# EAGLE library part QUICKIDE (library m-pad)
Quick Logic's QuickIDE Intel XScale PXA2xx to IDE Bridge Description: The QuickIDE device is a full featured IDE Controller companion device for the Intel XScale PXA2xxx line of embedded processors. This device offers extremely high throughput while consuming very little power. With its on-board Sector Buffer RAM, the device allows the XScale CPU to perform read and write operations in full 512- byte sectors without interruption or waiting for the externally connected IDE device to be 'ready'. This device connects to the XScale CPU via its static memory interface. Variable Latency Input and Output (VLIO) is handled automatically by the QuickIDE device through use of the RDY signal. The RDY signal is only used to properly synchronize the QuickIDE device's responses to the XScale read and write commands during high-speed bus operation the QuickIDE device does not assert the RDY signal while it is waiting for responses from the externally connected IDE device. Instead, after an IDE command is given to the QuickIDE device, an interrupt is asserted to the XScale CPU to indicate that the externally connected device has responded and that the internal sector buffer is ready for read or write. Although the IDE interface is 16-bits wide, the QuickIDE device 'stacks' the IDE data words properly in the internal sector buffers so that the XScale device can perform all read and write operations in 32-bit mode. The QuickIDE device is based upon QuickLogic's proven programmable logic ViaLink® technology and is implemented in the QL8050 device in a 196-pin plastic (0.8 mm ball pitch) BGA package. Features: IDE Controller - PIO Mode 0 to PIO Mode 4 Support with MultiWord DMA - Internal IDE Sector Buffering for Increased Performance (Back-to-Back ?Prefetch? Sector Transfers) - Controller Performance Close to Maximum PIO Mode Performance - In Prefetch MWDMA Mode, 32-bit XScale Transfers Using Flow-Through DMA - PIO4 Mode Supports 15.25 MBytes/sec (Excluding OS Overhead) - Greter than 10MBytes/sec Transfers Measured Under WinCE 5.0 - Internal ATA Timing Registers for PIO Modes - Compact Flash/PCMCIA Card Compatible in TRUE-IDE/ATA Mode Glueless Connection to Intel XScale Static Memory Interface - Uses One Chip Select and Eleven Address Lines - RDY Signal Implemented for Variable Latency Support (VLIO) - 32-bit XScale Transfers Supported - Compatible with XScale Flow-Through DMA Transfers Selectable Low Power Mode - Controlled by Discrete Input Pin - Reduces Overall Power Consumption to Less than 1mW Can Power Up/Down to Connected IDE Device Via External Switch Please send any comments to: messi@users.sourceforge.net
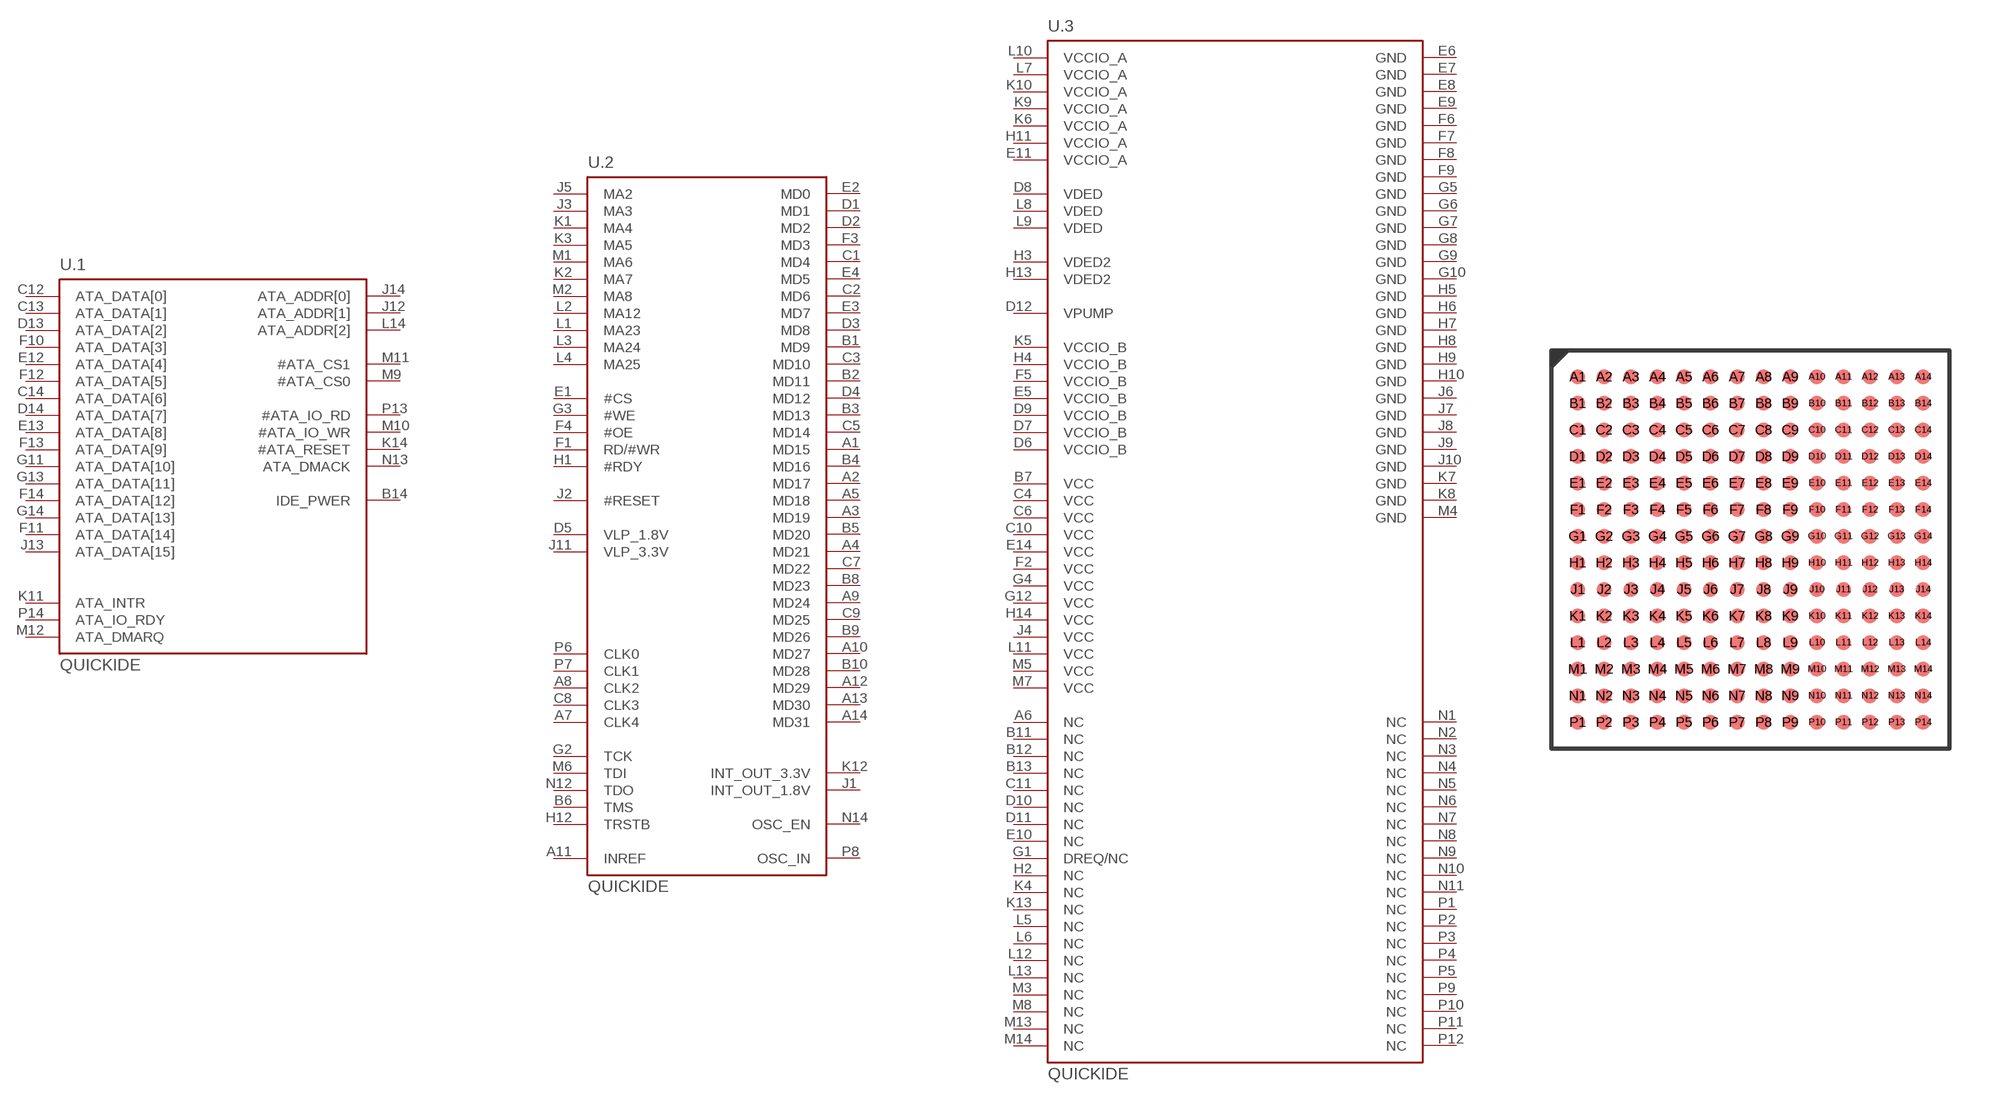
[diagram p88: symbol with the pads of BGA196; footprint BGA196]

Designator prefix U; gates .3=QUICKIDE_PWR .1=QUICKIDE_ATA .2=QUICKIDE_VLIO

## QUICKIDE-V3  [BGA196]
A1  .2:MD15
A2  .2:MD17
A3  .2:MD19
A4  .2:MD21
A5  .2:MD18
A6  .3:NC  nc
A7  .2:CLK4  in
A8  .2:CLK2  in
A9  .2:MD24
A10  .2:MD27
A11  .2:INREF  in
A12  .2:MD29
A13  .2:MD30
A14  .2:MD31
B1  .2:MD9
B2  .2:MD11
B3  .2:MD13
B4  .2:MD16
B5  .2:MD20
B6  .2:TMS  in
B7  .3:VCC  pwr
B8  .2:MD23
B9  .2:MD26
B10  .2:MD28
B11  .3:NC  nc
B12  .3:NC  nc
B13  .3:NC  nc
B14  .1:IDE_PWER  out
C1  .2:MD4
C2  .2:MD6
C3  .2:MD10
C4  .3:VCC  pwr
C5  .2:MD14
C6  .3:VCC  pwr
C7  .2:MD22
C8  .2:CLK3  in
C9  .2:MD25
C10  .3:VCC  pwr
C11  .3:NC  nc
C12  .1:ATA_DATA[0]
C13  .1:ATA_DATA[1]
C14  .1:ATA_DATA[6]
D1  .2:MD1
D2  .2:MD2
D3  .2:MD8
D4  .2:MD12
D5  .2:VLP_1.8V  in
D6  .3:VCCIO_B  pwr
D7  .3:VCCIO_B  pwr
D8  .3:VDED  pwr
D9  .3:VCCIO_B  pwr
D10  .3:NC  nc
D11  .3:NC  nc
D12  .3:VPUMP  pwr
D13  .1:ATA_DATA[2]
D14  .1:ATA_DATA[7]
E1  .2:#CS  in
E2  .2:MD0
E3  .2:MD7
E4  .2:MD5
E5  .3:VCCIO_B  pwr
E6  .3:GND  pwr
E7  .3:GND  pwr
E8  .3:GND  pwr
E9  .3:GND  pwr
E10  .3:NC  nc
E11  .3:VCCIO_A  pwr
E12  .1:ATA_DATA[4]
E13  .1:ATA_DATA[8]
E14  .3:VCC  pwr
F1  .2:RD/#WR  in
F2  .3:VCC  pwr
F3  .2:MD3
F4  .2:#OE  in
F5  .3:VCCIO_B  pwr
F6  .3:GND  pwr
F7  .3:GND  pwr
F8  .3:GND  pwr
F9  .3:GND  pwr
F10  .1:ATA_DATA[3]
F11  .1:ATA_DATA[14]
F12  .1:ATA_DATA[5]
F13  .1:ATA_DATA[9]
F14  .1:ATA_DATA[12]
G1  .3:DREQ/NC  out
G2  .2:TCK  in
G3  .2:#WE  in
G4  .3:VCC  pwr
G5  .3:GND  pwr
G6  .3:GND  pwr
G7  .3:GND  pwr
G8  .3:GND  pwr
G9  .3:GND  pwr
G10  .3:GND  pwr
G11  .1:ATA_DATA[10]
G12  .3:VCC  pwr
G13  .1:ATA_DATA[11]
G14  .1:ATA_DATA[13]
H1  .2:#RDY  out
H2  .3:NC  nc
H3  .3:VDED2  pwr
H4  .3:VCCIO_B  pwr
H5  .3:GND  pwr
H6  .3:GND  pwr
H7  .3:GND  pwr
H8  .3:GND  pwr
H9  .3:GND  pwr
H10  .3:GND  pwr
H11  .3:VCCIO_A  pwr
H12  .2:TRSTB  in
H13  .3:VDED2  pwr
H14  .3:VCC  pwr
J1  .2:INT_OUT_1.8V  out
J2  .2:#RESET  in
J3  .2:MA3  in
J4  .3:VCC  pwr
J5  .2:MA2  in
J6  .3:GND  pwr
J7  .3:GND  pwr
J8  .3:GND  pwr
J9  .3:GND  pwr
J10  .3:GND  pwr
J11  .2:VLP_3.3V
J12  .1:ATA_ADDR[1]  out
J13  .1:ATA_DATA[15]
J14  .1:ATA_ADDR[0]  out
K1  .2:MA4  in
K2  .2:MA7  in
K3  .2:MA5  in
K4  .3:NC  nc
K5  .3:VCCIO_B  pwr
K6  .3:VCCIO_A  pwr
K7  .3:GND  pwr
K8  .3:GND  pwr
K9  .3:VCCIO_A  pwr
K10  .3:VCCIO_A  pwr
K11  .1:ATA_INTR  in
K12  .2:INT_OUT_3.3V  out
K13  .3:NC  nc
K14  .1:#ATA_RESET  out
L1  .2:MA23  in
L2  .2:MA12  in
L3  .2:MA24  in
L4  .2:MA25  in
L5  .3:NC  nc
L6  .3:NC  nc
L7  .3:VCCIO_A  pwr
L8  .3:VDED  pwr
L9  .3:VDED  pwr
L10  .3:VCCIO_A  pwr
L11  .3:VCC  pwr
L12  .3:NC  nc
L13  .3:NC  nc
L14  .1:ATA_ADDR[2]  out
M1  .2:MA6  in
M2  .2:MA8  in
M3  .3:NC  nc
M4  .3:GND  pwr
M5  .3:VCC  pwr
M6  .2:TDI  in
M7  .3:VCC  pwr
M8  .3:NC  nc
M9  .1:#ATA_CS0  out
M10  .1:#ATA_IO_WR  out
M11  .1:#ATA_CS1  out
M12  .1:ATA_DMARQ  in
M13  .3:NC  nc
M14  .3:NC  nc
N1  .3:NC  nc
N2  .3:NC  nc
N3  .3:NC  nc
N4  .3:NC  nc
N5  .3:NC  nc
N6  .3:NC  nc
N7  .3:NC  nc
N8  .3:NC  nc
N9  .3:NC  nc
N10  .3:NC  nc
N11  .3:NC  nc
N12  .2:TDO  out
N13  .1:ATA_DMACK  out
N14  .2:OSC_EN  out
P1  .3:NC  nc
P2  .3:NC  nc
P3  .3:NC  nc
P4  .3:NC  nc
P5  .3:NC  nc
P6  .2:CLK0  in
P7  .2:CLK1  in
P8  .2:OSC_IN  in
P9  .3:NC  nc
P10  .3:NC  nc
P11  .3:NC  nc
P12  .3:NC  nc
P13  .1:#ATA_IO_RD  out
P14  .1:ATA_IO_RDY  in

## Footprint BGA196 (pad centres in mm)
Ball Grid Array 196 used for the QucikIDE from QuickLogic
smd 0.45 x 0.45: A1 -5.2,5.2; A2 -4.4,5.2; A3 -3.6,5.2; A4 -2.8,5.2; A5 -2,5.2; A6 -1.2,5.2; A7 -0.4,5.2; A8 0.4,5.2; A9 1.2,5.2; A10 2,5.2; A11 2.8,5.2; A12 3.6,5.2; A13 4.4,5.2; A14 5.2,5.2; B1 -5.2,4.4; B2 -4.4,4.4; B3 -3.6,4.4; B4 -2.8,4.4; B5 -2,4.4; B6 -1.2,4.4; B7 -0.4,4.4; B8 0.4,4.4; B9 1.2,4.4; B10 2,4.4; B11 2.8,4.4; B12 3.6,4.4; B13 4.4,4.4; B14 5.2,4.4; C1 -5.2,3.6; C2 -4.4,3.6; C3 -3.6,3.6; C4 -2.8,3.6; C5 -2,3.6; C6 -1.2,3.6; C7 -0.4,3.6; C8 0.4,3.6; C9 1.2,3.6; C10 2,3.6; C11 2.8,3.6; C12 3.6,3.6; C13 4.4,3.6; C14 5.2,3.6; D1 -5.2,2.8; D2 -4.4,2.8; D3 -3.6,2.8; D4 -2.8,2.8; D5 -2,2.8; D6 -1.2,2.8; D7 -0.4,2.8; D8 0.4,2.8; D9 1.2,2.8; D10 2,2.8; D11 2.8,2.8; D12 3.6,2.8; D13 4.4,2.8; D14 5.2,2.8; E1 -5.2,2; E2 -4.4,2; E3 -3.6,2; E4 -2.8,2; E5 -2,2; E6 -1.2,2; E7 -0.4,2; E8 0.4,2; E9 1.2,2; E10 2,2; E11 2.8,2; E12 3.6,2; E13 4.4,2; E14 5.2,2; F1 -5.2,1.2; F2 -4.4,1.2; F3 -3.6,1.2; F4 -2.8,1.2; F5 -2,1.2; F6 -1.2,1.2; F7 -0.4,1.2; F8 0.4,1.2; F9 1.2,1.2; F10 2,1.2; F11 2.8,1.2; F12 3.6,1.2; F13 4.4,1.2; F14 5.2,1.2; G1 -5.2,0.4; G2 -4.4,0.4; G3 -3.6,0.4; G4 -2.8,0.4; G5 -2,0.4; G6 -1.2,0.4; G7 -0.4,0.4; G8 0.4,0.4; G9 1.2,0.4; G10 2,0.4; G11 2.8,0.4; G12 3.6,0.4; G13 4.4,0.4; G14 5.2,0.4; H1 -5.2,-0.4; H2 -4.4,-0.4; H3 -3.6,-0.4; H4 -2.8,-0.4; H5 -2,-0.4; H6 -1.2,-0.4; H7 -0.4,-0.4; H8 0.4,-0.4; H9 1.2,-0.4; H10 2,-0.4; H11 2.8,-0.4; H12 3.6,-0.4; H13 4.4,-0.4; H14 5.2,-0.4; J1 -5.2,-1.2; J2 -4.4,-1.2; J3 -3.6,-1.2; J4 -2.8,-1.2; J5 -2,-1.2; J6 -1.2,-1.2; J7 -0.4,-1.2; J8 0.4,-1.2; J9 1.2,-1.2; J10 2,-1.2; J11 2.8,-1.2; J12 3.6,-1.2; J13 4.4,-1.2; J14 5.2,-1.2; K1 -5.2,-2; K2 -4.4,-2; K3 -3.6,-2; K4 -2.8,-2; K5 -2,-2; K6 -1.2,-2; K7 -0.4,-2; K8 0.4,-2; K9 1.2,-2; K10 2,-2; K11 2.8,-2; K12 3.6,-2; K13 4.4,-2; K14 5.2,-2; L1 -5.2,-2.8; L2 -4.4,-2.8; L3 -3.6,-2.8; L4 -2.8,-2.8; L5 -2,-2.8; L6 -1.2,-2.8; L7 -0.4,-2.8; L8 0.4,-2.8; L9 1.2,-2.8; L10 2,-2.8; L11 2.8,-2.8; L12 3.6,-2.8; L13 4.4,-2.8; L14 5.2,-2.8; M1 -5.2,-3.6; M2 -4.4,-3.6; M3 -3.6,-3.6; M4 -2.8,-3.6; M5 -2,-3.6; M6 -1.2,-3.6; M7 -0.4,-3.6; M8 0.4,-3.6; M9 1.2,-3.6; M10 2,-3.6; M11 2.8,-3.6; M12 3.6,-3.6; M13 4.4,-3.6; M14 5.2,-3.6; N1 -5.2,-4.4; N2 -4.4,-4.4; N3 -3.6,-4.4; N4 -2.8,-4.4; N5 -2,-4.4; N6 -1.2,-4.4; N7 -0.4,-4.4; N8 0.4,-4.4; N9 1.2,-4.4; N10 2,-4.4; N11 2.8,-4.4; N12 3.6,-4.4; N13 4.4,-4.4; N14 5.2,-4.4; P1 -5.2,-5.2; P2 -4.4,-5.2; P3 -3.6,-5.2; P4 -2.8,-5.2; P5 -2,-5.2; P6 -1.2,-5.2; P7 -0.4,-5.2; P8 0.4,-5.2; P9 1.2,-5.2; P10 2,-5.2; P11 2.8,-5.2; P12 3.6,-5.2; P13 4.4,-5.2; P14 5.2,-5.2